# EAGLE library part AVR_10_PIN_ISP (library custom_lib)
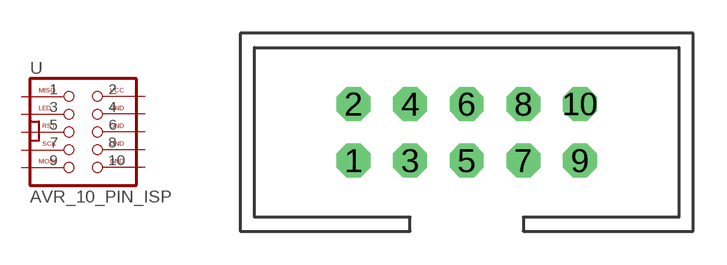
[diagram p1: symbol with the pads of 2X05; footprint 2X05]

Designator prefix -

## AVR_10_PIN_ISP  [2X05]
1  MISO  pas
2  VCC  pas
3  LED  pas
4  GND1  pas
5  RST  pas
6  GND2  pas
7  SCK  pas
8  GND3  pas
9  MOSI  pas
10  GND4  pas

## Footprint 2X05 (pad centres in mm)
PIN HEADER
drill 1.016 octagon: 1 -5.08,-1.27; 2 -5.08,1.27; 3 -2.54,-1.27; 4 -2.54,1.27; 5 0,-1.27; 6 0,1.27; 7 2.54,-1.27; 8 2.54,1.27; 9 5.08,-1.27; 10 5.08,1.27